# Altium footprint library 5015680707.PcbLib: 1 footprints
Each footprint in its own frame and in the unit in brackets; x right, y up, seen from the top. Pads: shape width x height; smd on the part's side, far side on the other; paste and mask are expansions set on the pad; w line width, h text height; cw(c..) or ccw(c..) is an arc to the next point about the centre after c.
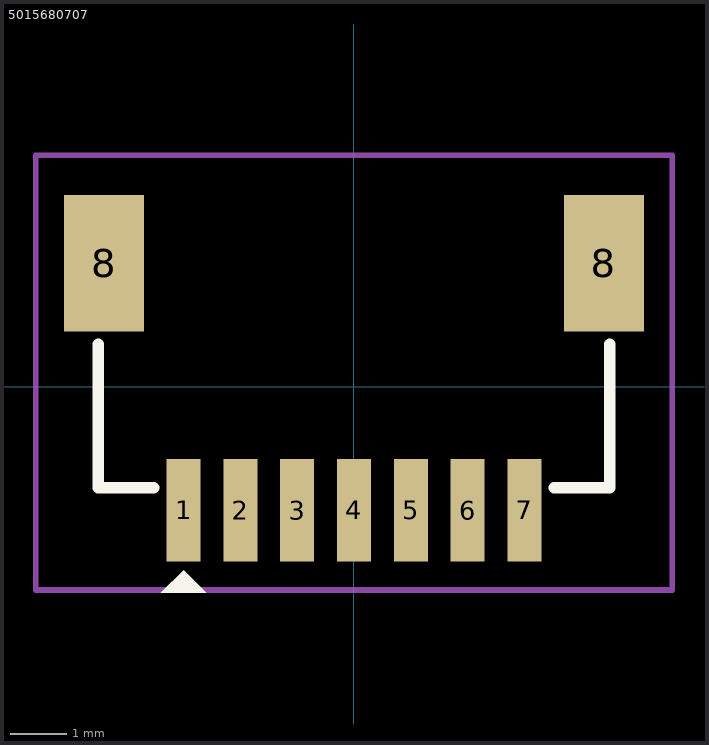
[diagram p0: the footprint, top view; thin cyan lines are the x and y axes]

## 5015680707 [mm]
pads (9):
  rect 0.6x1.8 smd: 1(-3,-2.175) 2(-2,-2.175) 3(-1,-2.175) 4(0,-2.175) 5(1,-2.175) 6(2,-2.175) 7(3,-2.175)
  rect 1.4x2.4 smd: 8(-4.4,2.175) 8(4.4,2.175)
Top Overlay:
  region: -2.6,-3.625 -3.4,-3.625 -3,-3.225
  lines w0.2: -4.5,0.75 -4.5,-1.775 -3.525,-1.775 ; 3.525,-1.775 4.5,-1.775 4.5,0.75
Top Courtyard:
  lines w0.1: -5.6,3.275 -5.6,4.075 ; 4.425,4.075 5.6,4.075 ; -5.6,4.075 5.6,4.075 ; -5.6,4.075 -5.6,-3.575 5.6,-3.575 5.6,4.075
3D body "5015680707.stp": height 4.8, standoff 0.1, extent -4.5,-2.325 4.5,3.575